# Altium integrated library SFH_213_FA.IntLib: 1 symbol
Pins are listed as number, name and electrical type; pins without a type are passive.

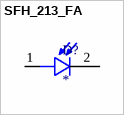
[diagram p0: symbol SFH_213_FA]

## SFH_213_FA
designator D?
Photodiode 900nm 5ns 20Â° Radial; MF: OSRAM Opto; MP: SFH 213 FA; Value: *; SnapEDA_Link: https://www.snapeda.com/parts/SFH%20213%20FA/OSRAM+Opto+Semiconductors+Inc./view-part/?ref=snap; Purchase-URL: https://pricing.snapeda.com/search/part/SFH 213 FA/?ref=eda; Availability: In Stock; Price: None; Package: Radial Osram Opto; Check_prices: https://www.snapeda.com/parts/SFH%20213%20FA/OSRAM+Opto+Semiconductors+Inc./view-part/?ref=eda
footprint XDCR_SFH_213_FA
pins: 1 A, 2 C